# Altium footprint library 1935161.PcbLib: 1 footprints
Each footprint in its own frame and in the unit in brackets; x right, y up, seen from the top. Pads: shape width x height; smd on the part's side, far side on the other; paste and mask are expansions set on the pad; w line width, h text height; cw(c..) or ccw(c..) is an arc to the next point about the centre after c.
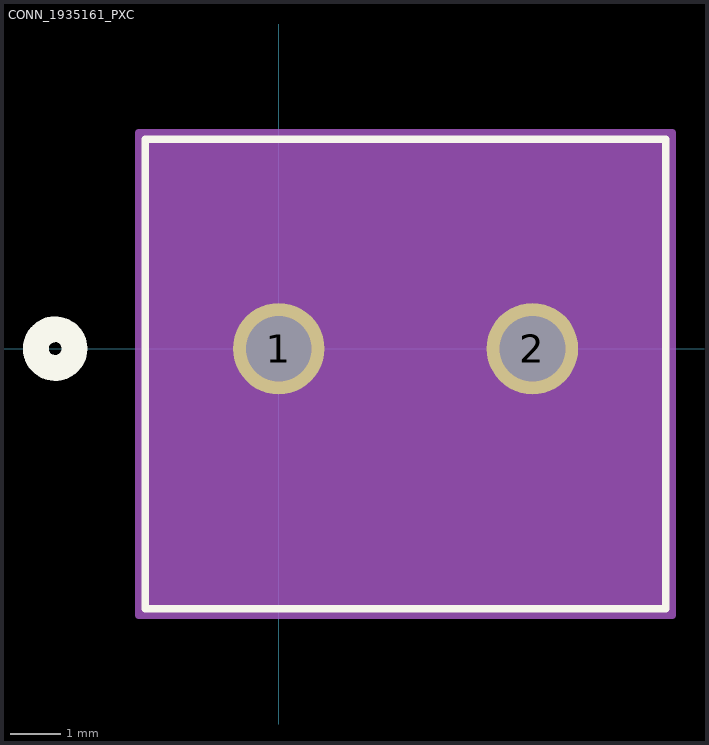
[diagram p0: the footprint, top view; thin cyan lines are the x and y axes]

## CONN_1935161_PXC [mil]
pads (2):
  round 71 / inner round 60 / far side round 71 hole 51 paste-35.5 mask+0: 1(0,0) 2(196.85,0)
Top Overlay:
  circle w20: c-173.43,0 r15
  lines w6: -103.43,-201.85 300.28,-201.85 300.28,162.48 -103.43,162.48 -103.43,-201.85
Bottom Overlay:
  circle w20: c-173.43,0 r15
Mechanical 13:
  circle w20: c0,75 r15
  lines w1: -98.43,-196.85 295.28,-196.85 295.28,157.48 -98.43,157.48 -98.43,-196.85
Mechanical 15:
  region: 305.28,167.48 -108.43,167.48 -108.43,-206.85 305.28,-206.85
  lines w6: -108.43,-206.85 -108.43,167.48 305.28,167.48 305.28,-206.85 -108.43,-206.85